# EAGLE library part MAX3221 (library Interface IC_MORISHITA)
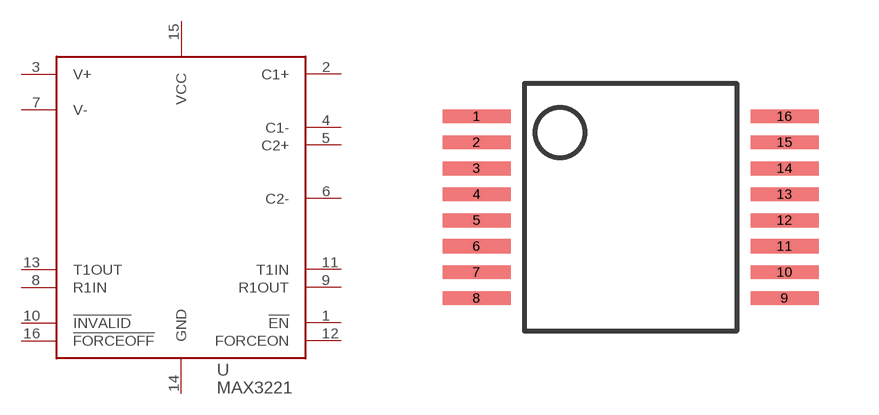
[diagram p0: symbol with the pads of MAX3221; footprint MAX3221]

Designator prefix U

## MAX3221  [MAX3221]
1  !EN
2  C1+
3  V+
4  C1-
5  C2+
6  C2-
7  V-
8  R1IN
9  R1OUT
10  !INVALID
11  T1IN
12  FORCEON
13  T1OUT
14  GND
15  VCC
16  !FORCEOFF

## Footprint MAX3221 (pad centres in mm)
16pin SSOP Package
smd 1.7 x 0.35: 1 -3.85,2.275; 2 -3.85,1.625; 3 -3.85,0.975; 4 -3.85,0.325; 5 -3.85,-0.325; 6 -3.85,-0.975; 7 -3.85,-1.625; 8 -3.85,-2.275; 9 3.85,-2.275; 10 3.85,-1.625; 11 3.85,-0.975; 12 3.85,-0.325; 13 3.85,0.325; 14 3.85,0.975; 15 3.85,1.625; 16 3.85,2.275